# Altium integrated library Specialized ICs.IntLib: 1 symbol
Pins are listed as number, name and electrical type; pins without a type are passive.

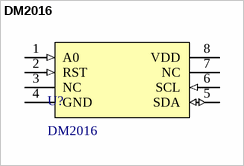
[diagram p0: symbol DM2016]

## DM2016
designator U?
Encryption IC,128bit Key ,SOT-23-6,1024-bit EEPROM,I2C; Manufacturer: SDMC; Manufacturer Part Number: DM2016N; Supplier: *; Supplier Part Number: *; Package: SOP8
footprint SOP8_3,9mmx5mm (/ 090726 / J.Jaramillo)
pins: 1 A0 (in), 2 RST (in), 3 NC, 4 GND (power), 5 SDA (io), 6 SCL (in), 7 NC, 8 VDD (power)